# EAGLE library part 738-103 (library con-wago_738)
Serie 738, Vierstock-Klemmenleiste für Leiterplatten 4 Lötstifte in Reihe / Series 738, Quadruple-deck PCB terminal strip 4 solder pins, in line Polzahl / Pole No.: 3 Rastermaß / Pitch: 5 mm Bemessungsspannung / Rated Voltage: 320 V Nennstrom / Nominal Current: 18 A Leiterquerschnitt / Conductor Size: 0.08 - 2.5 mm² Anschlusstechnik / Connection Technology: CAGE CLAMP® Lötstiftlänge: / Solder Pin Length: 4 mm Leitereinführung (zur Platine) / Conductor entry angle (to PCB): 45 ° Farbe / Color: grau / gray Stand: 01.01.2012. Die jeweils aktuellen Daten zu diesem Artikel finden Sie in unserem Produktkatalog, den Sie unter www.wago.com einsehen können. As of: 01/01/2012. Please find the newest data for this article in our product catalogue, which can be viewed under www.wago.com.
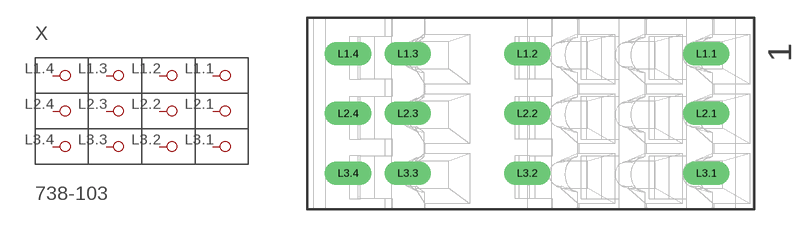
[diagram p1: symbol with the pads of P-738-103; footprint P-738-103]

Designator prefix X

## 738-103  [P-738-103]
L1.1  P1.1
L1.2  P1.2
L1.3  P1.3
L1.4  P1.4
L2.1  P2.1
L2.2  P2.2
L2.3  P2.3
L2.4  P2.4
L3.1  P3.1
L3.2  P3.2
L3.3  P3.3
L3.4  P3.4

## Footprint P-738-103 (pad centres in mm)
drill 1.3 long: L1.1 14.685,5; L1.2 -0.315,5; L1.3 -10.315,5; L1.4 -15.315,5; L2.1 14.685,0; L2.2 -0.315,0; L2.3 -10.315,0; L2.4 -15.315,0; L3.1 14.685,-5; L3.2 -0.315,-5; L3.3 -10.315,-5; L3.4 -15.315,-5